# EAGLE library part LPC1114FN28 (library mbed-HDK)
32-bit ARM Cortex-M0 microcontroller; up to 64 kB flash and 8 kB SRAM The LPC1110/11/12/13/14/15 are a ARM Cortex-M0 based, low-cost 32-bit MCU family, designed for 8/16-bit microcontroller applications, offering performance, low power, simple instruction set and memory addressing together with reduced code size compared to existing 8/16-bit architectures. The LPC1110/11/12/13/14/15 operate at CPU frequencies of up to 50 MHz. The peripheral complement of the LPC1110/11/12/13/14/15 includes up to 64 kB of flash memory, up to 8 kB of data memory, one Fast-mode Plus I 2 C-bus interface, one RS-485/EIA-485 UART, up to two SPI interfaces with SSP features, four general purpose counter/timers, a 10-bit ADC, and up to 42 general purpose I/O pins. Remark: The LPC111x series consists of the LPC1100 series (parts LPC111x/101/201/301), LPC1100L series (parts LPC111x/002/102/202/302), and the LPC1100XL series (parts LPC111x/103/203/303/323/333). The LPC1100L and LPC1100XL series include the power profiles, a windowed watchdog timer, and a configurable open-drain mode. AAL Eindhoven MK
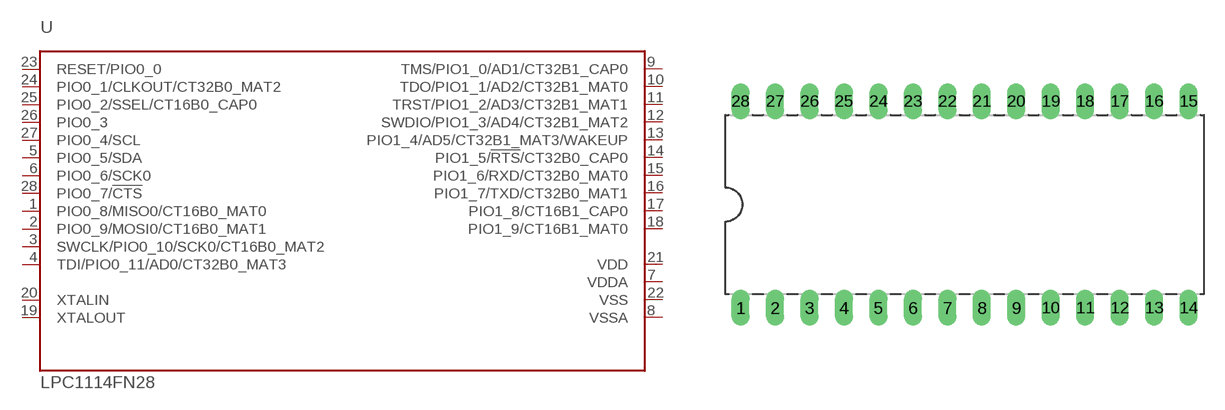
[diagram p10: symbol with the pads of SOT117; footprint SOT117]

Designator prefix U

## LPC1114FN28/102 (ADC: 6; FLASH: 32kB; GPIO: 22; PWR_PROFILES: yes; SERIES: LPC1100L; SPI: 1; SRAM: 4kB)  [SOT117]
1  PIO0_8/MISO0/CT16B0_MAT0
2  PIO0_9/MOSI0/CT16B0_MAT1
3  SWCLK/PIO0_10/SCK0/CT16B0_MAT2
4  TDI/PIO0_11/AD0/CT32B0_MAT3
5  PIO0_5/SDA
6  PIO0_6/SCK0
7  VDDA  pwr
8  VSSA  pwr
9  TMS/PIO1_0/AD1/CT32B1_CAP0
10  TDO/PIO1_1/AD2/CT32B1_MAT0
11  TRST/PIO1_2/AD3/CT32B1_MAT1
12  SWDIO/PIO1_3/AD4/CT32B1_MAT2
13  PIO1_4/AD5/CT32B1_MAT3/WAKEUP
14  PIO1_5/!RTS!/CT32B0_CAP0
15  PIO1_6/RXD/CT32B0_MAT0
16  PIO1_7/TXD/CT32B0_MAT1
17  PIO1_8/CT16B1_CAP0
18  PIO1_9/CT16B1_MAT0
19  XTALOUT  out
20  XTALIN  in
21  VDD  pwr
22  VSS  pwr
23  RESET/PIO0_0
24  PIO0_1/CLKOUT/CT32B0_MAT2
25  PIO0_2/SSEL/CT16B0_CAP0
26  PIO0_3
27  PIO0_4/SCL
28  PIO0_7/!CTS!

## Footprint SOT117 (pad centres in mm)
SOT117 DIP28: plastic dual in-line package; 28 leads (600 mil) JEDEC: MO-015 IEC: 051G05 JEITA: SC-510-28
drill 0.813 long: 1 -16.51,-7.62; 2 -13.97,-7.62; 3 -11.43,-7.62; 4 -8.89,-7.62; 5 -6.35,-7.62; 6 -3.81,-7.62; 7 -1.27,-7.62; 8 1.27,-7.62; 9 3.81,-7.62; 10 6.35,-7.62; 11 8.89,-7.62; 12 11.43,-7.62; 13 13.97,-7.62; 14 16.51,-7.62; 15 16.51,7.62; 16 13.97,7.62; 17 11.43,7.62; 18 8.89,7.62; 19 6.35,7.62; 20 3.81,7.62; 21 1.27,7.62; 22 -1.27,7.62; 23 -3.81,7.62; 24 -6.35,7.62; 25 -8.89,7.62; 26 -11.43,7.62; 27 -13.97,7.62; 28 -16.51,7.62